# EAGLE library part SN74LV4T125 (library BB8)
Level translator
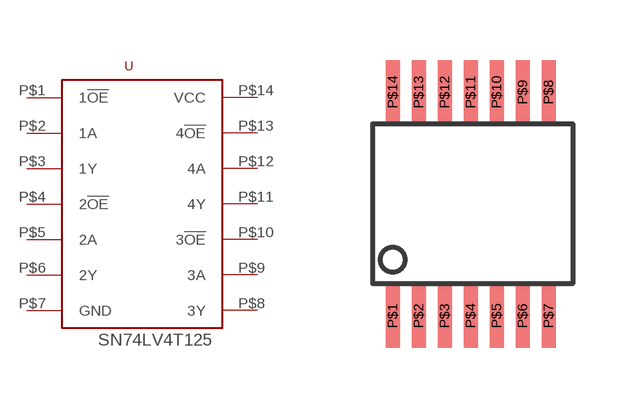
[diagram p7: symbol with the pads of 14-TSSOP; footprint 14-TSSOP]

Designator prefix U

## SN74LV4T125  [14-TSSOP]
P$1  1!OE
P$2  1A
P$3  1Y
P$4  2!OE
P$5  2A
P$6  2Y
P$7  GND
P$8  3Y
P$9  3A
P$10  3!OE
P$11  4Y
P$12  4A
P$13  4!OE
P$14  VCC

## Footprint 14-TSSOP (pad centres in mm)
smd 0.35 x 1.6: P$1 0,0; P$2 0.65,0; P$3 1.3,0; P$4 1.95,0; P$5 2.6,0; P$6 3.25,0; P$7 3.9,0; P$8 3.9,5.6; P$9 3.25,5.6; P$10 2.6,5.6; P$11 1.95,5.6; P$12 1.3,5.6; P$13 0.65,5.6; P$14 0,5.6